# Altium schematic symbol library FH63S-10S-0.5SH.SchLib: 1 symbol
Pins are listed as number, name and electrical type; pins without a type are passive.

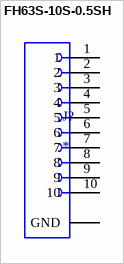
[diagram p0: symbol FH63S-10S-0.5SH]

## FH63S-10S-0.5SH
designator J?
MP: FH63S-10S-0.5SH; Availability: Unavailable; Price: None; Package: None; Value: *
footprint HRS_FH63S-10S-0.5SH
pins: 1, 2, 3, 4, 5, 6, 7, 8, 9, 10, G1 GND (power), G2 GND (power), G3 GND (power)